# Altium footprint library Relay.PcbLib: 4 footprints
Each footprint in its own frame and in the unit in brackets; x right, y up, seen from the top. Pads: shape width x height; smd on the part's side, far side on the other; paste and mask are expansions set on the pad; w line width, h text height; cw(c..) or ccw(c..) is an arc to the next point about the centre after c.
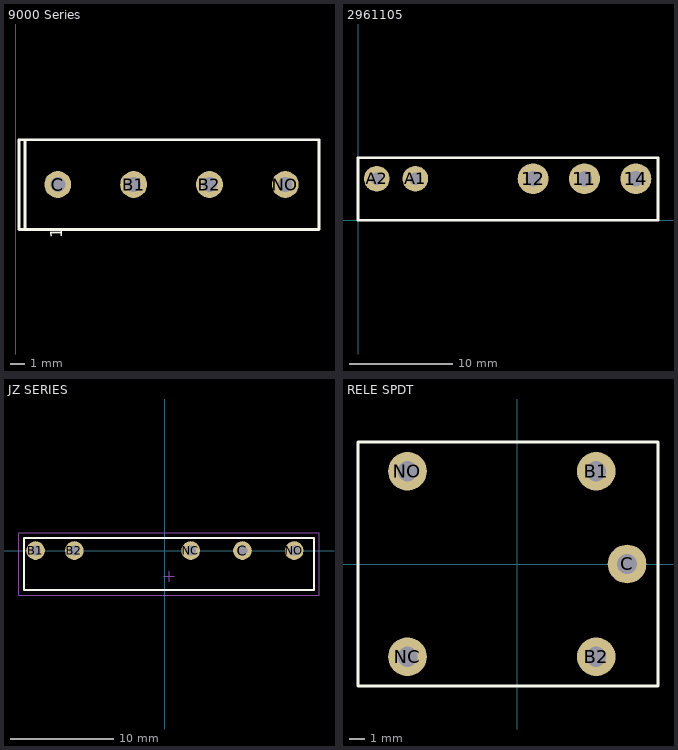
[diagram p0: the footprints below, top view; thin cyan lines are the x and y axes]

## 9000 Series [mm]
pads (4):
  round 1.8 hole 1: B1(7.905,12.15) B2(12.985,12.15) C(2.825,12.15) NO(18.065,12.15)
Top Overlay:
  lines w0.2: 0.625,9.15 0.625,15.15 ; 0.225,9.15 20.325,9.15 20.325,15.15 0.225,15.15 0.225,9.15
  text "1" at 3.125,8.55 h0.8
3D body "User Library-Relay-Reed.STEP": height 8.1, standoff -2.9, extent 0.795,9.35 20.095,14.95

## 2961105 [mm]
height 15
pads (5):
  round 3 hole 1.5: 11(22.025,4.05) 12(17.025,4.05) 14(27.025,4.05)
  round 2.5 hole 1.2: A1(5.575,4.05) A2(1.825,4.05)
Top Overlay:
  lines w0.254: 0,0 0,6.1 29.175,6.1 29.175,0 0,0
3D body "2222222222222222.STEP": height 15, standoff -4, extent 0.825,0.25 28.925,5.25

## JZ SERIES [mm]
pads (5):
  round 1.8 hole 1: B1(-12.5,0) B2(-8.75,0) C(7.5,0) NC(2.5,0) NO(12.5,0)
Top Overlay:
  lines w0.2: -13.6,-3.8 -13.6,1.2 14.4,1.2 14.4,-3.8 -13.6,-3.8
Mechanical 15:
  lines w0.1: -0.1,-2.5 0.9,-2.5 ; 0.4,-3 0.4,-2 ; -14.1,-4.3 14.9,-4.3 14.9,1.7 -14.1,1.7 -14.1,-4.3
3D body "Rele3451.STEP": height 14.86, standoff -3.64, extent -13.6,-3.8 14.4,1.2

## RELE SPDT [mm]
pads (5):
  round 2.5 hole 1.3 mask+0: B1(5.1,6) B2(5.1,-6) C(7.1,0) NC(-7.1,-6) NO(-7.1,6)
Top Overlay:
  lines w0.2: -10.3,-7.9 -10.3,7.9 9.1,7.9 9.1,-7.9 -10.3,-7.9
3D body "User Library-Relay SPDT.step": height 15.4, standoff -4, extent -10.1,-7.75 8.9,7.75